# EAGLE library part 2821 (library parts)
ADAFRUIT - 2821 - Adafruit Feather HUZZAH ESP8266 Source: Datasheet <https://cdn-learn.adafruit.com/downloads/pdf/adafruit-feather-huzzah-esp8266.pdf>
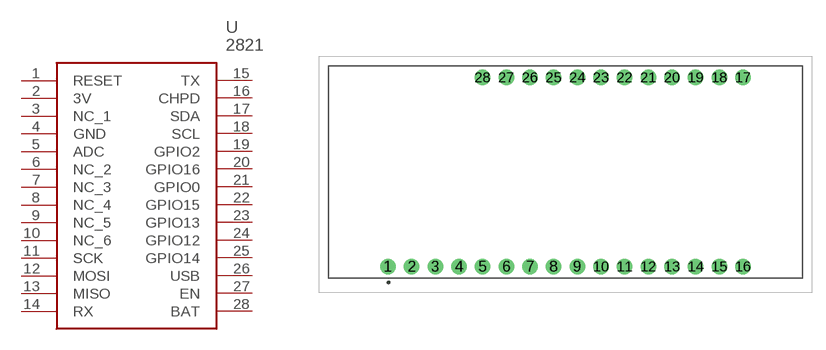
[diagram p6: symbol with the pads of 2821; footprint 2821]

Designator prefix U

## 2821 (ALLIED_NUMBER: 70929322; ALLIED_PRICE-STOCK: https://www.alliedelec.com/adafruit-industries-2821/70929322/; DESCRIPTION: ADAFRUIT - 2821 - Adafruit Feather HUZZAH ESP8266; HEIGHT: 4mm; MANUFACTURER_NAME: Adafruit; MANUFACTURER_PART_NUMBER: 2821; MOUSER_PART_NUMBER: 485-2821; MOUSER_PRICE-STOCK: https://www.mouser.com/Search/Refine.aspx?Keyword=485-2821; RS_PART_NUMBER: 1245505; RS_PRICE-STOCK: http://uk.rs-online.com/web/p/products/1245505)  [2821]
1  RESET
2  3V
3  NC_1
4  GND
5  ADC
6  NC_2
7  NC_3
8  NC_4
9  NC_5
10  NC_6
11  SCK
12  MOSI
13  MISO
14  RX
15  TX
16  CHPD
17  SDA
18  SCL
19  GPIO2
20  GPIO16
21  GPIO0
22  GPIO15
23  GPIO13
24  GPIO12
25  GPIO14
26  USB
27  EN
28  BAT

## Footprint 2821 (pad centres in mm)
New Feather Huzzah
drill 1.11 pad 1.665: 1 -35.56,0; 2 -33.02,0; 3 -30.48,0; 4 -27.94,0; 5 -25.4,0; 6 -22.86,0; 7 -20.32,0; 8 -17.78,0; 9 -15.24,0; 10 -12.7,0; 11 -10.16,0; 12 -7.62,0; 13 -5.08,0; 14 -2.54,0; 15 0,0; 16 2.54,0; 17 2.54,20.32; 18 0,20.32; 19 -2.54,20.32; 20 -5.08,20.32; 21 -7.62,20.32; 22 -10.16,20.32; 23 -12.7,20.32; 24 -15.24,20.32; 25 -17.78,20.32; 26 -20.32,20.32; 27 -22.86,20.32; 28 -25.4,20.32